# Altium schematic symbol library SCH - CONNECTORS - WE 61400416021.Schlib: 1 symbol
Pins are listed as number, name and electrical type; pins without a type are passive.

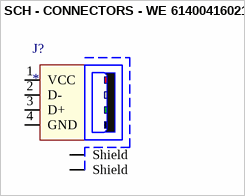
[diagram p0: symbol SCH - CONNECTORS - WE 61400416021]

## SCH - CONNECTORS - WE 61400416021
designator J?
ComponentLink1 Description: Manufacturer; ComponentLink2 Description: Datasheet; ComponentLink1URL: http://www.we-online.de; ComponentLink2URL: http://katalog.we-online.de/em/datasheet/61400416021.pdf
footprint 61400416021
pins: 1 VCC, 2 D-, 3 D+, 4 GND, Z1 Shield, Z2 Shield